# Altium footprint library SPARKFUN_SEN-13879.PcbLib: 1 footprints
Each footprint in its own frame and in the unit in brackets; x right, y up, seen from the top. Pads: shape width x height; smd on the part's side, far side on the other; paste and mask are expansions set on the pad; w line width, h text height; cw(c..) or ccw(c..) is an arc to the next point about the centre after c.
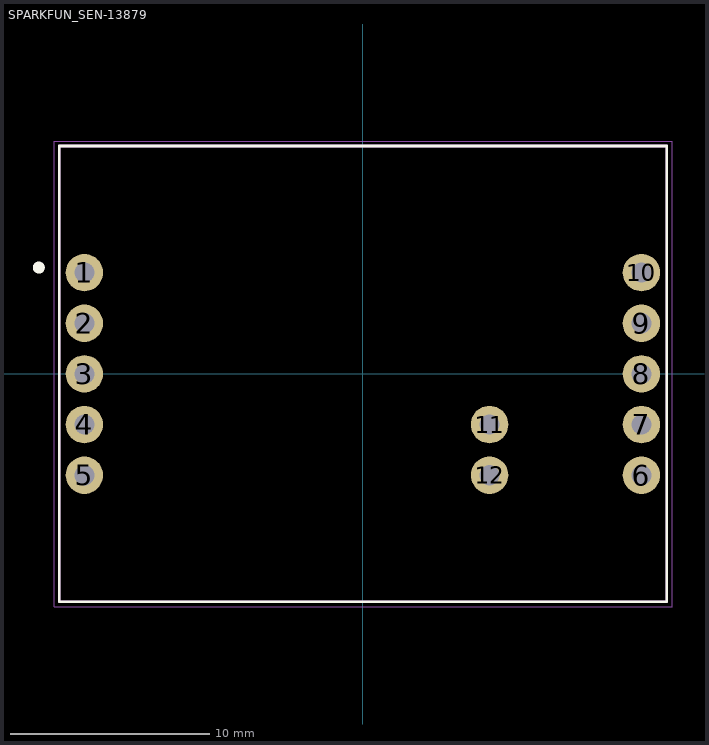
[diagram p0: the footprint, top view; thin cyan lines are the x and y axes]

## SPARKFUN_SEN-13879 [mil]
pads (12):
  round 74 hole 40: 1(-550,200) 2(-550,100) 3(-550,0) 4(-550,-100) 5(-550,-200) 6(550,-200) 7(550,-100) 8(550,0) 9(550,100) 10(550,200) 11(250,-100) 12(250,-200)
Top Overlay:
  circle w11.81: c-640,210 r5.91
  lines w5: -600,-450 600,-450 600,450 -600,450 -600,-450
Mechanical 13:
  lines w5: -600,-450 -600,450 600,450 600,-450 -600,-450
Mechanical 15:
  lines w1.97: -609.84,-459.84 -609.84,459.45 610.63,459.45 610.63,-459.84 -609.84,-459.84
3D body "HX711.STEP": height 161.42, standoff -354.33, extent -600,-450 600,450